# Altium schematic symbol library LMH6715MAX_NOPB.SchLib: 1 symbol
Pins are listed as number, name and electrical type; pins without a type are passive.

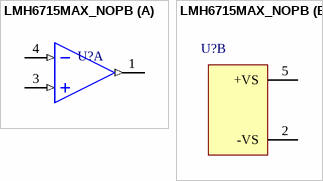
[diagram p0: symbol LMH6715MAX_NOPB]

## LMH6715MAX_NOPB
designator U?
part A pins: 1 OUT1 (out), 3 IN+ (in), 4 IN- (in)
part B pins: 2 -VS (power), 5 +VS (power)